# EAGLE library part ARDUINO_PRO_MINI_1 (library arduino)
Arduino Pro Mini Microcontroller ATmega328 Operating Voltage 3.3V or 5V (depending on model) Input Voltage 3.35 -12 V (3.3V model) or 5 - 12 V (5V model) Digital I/O Pins 14 (of which 6 provide PWM output) Analog Input Pins 6 DC Current per I/O Pin 40 mA Flash Memory 32 kB (of which 0.5 kB used by bootloader) SRAM 2 kB EEPROM 1 kB Clock Speed 8 MHz (3.3V model) or 16 MHz (5V model)
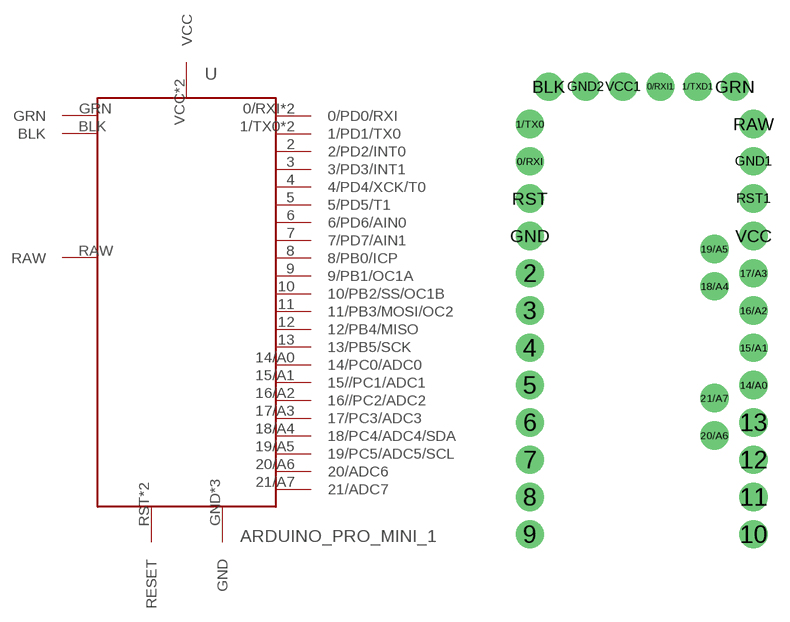
[diagram p0: symbol with the pads of ARDUINO_PRO_MINI_1; footprint ARDUINO_PRO_MINI_1]

Designator prefix -

## ARDUINO_PRO_MINI_11  [ARDUINO_PRO_MINI_1]
0/RXI  0/PD0/RXI
0/RXI1  0/PD0/RXI
1/TX0  1/PD1/TX0
1/TXD1  1/PD1/TX0
2  2/PD2/INT0
3  3/PD3/INT1
4  4/PD4/XCK/T0
5  5/PD5/T1
6  6/PD6/AIN0
7  7/PD7/AIN1
8  8/PB0/ICP
9  9/PB1/OC1A
10  10/PB2/SS/OC1B
11  11/PB3/MOSI/OC2
12  12/PB4/MISO
13  13/PB5/SCK
14/A0  14/PC0/ADC0
15/A1  15//PC1/ADC1
16/A2  16//PC2/ADC2
17/A3  17/PC3/ADC3
18/A4  18/PC4/ADC4/SDA
19/A5  19/PC5/ADC5/SCL
20/A6  20/ADC6
21/A7  21/ADC7
BLK  BLK
GND  GND
GND1  GND
GND2  GND
GRN  GRN
RAW  RAW
RST  RESET
RST1  RESET
VCC  VCC  pwr
VCC1  VCC  pwr

## Footprint ARDUINO_PRO_MINI_1 (pad centres in mm)
Arduino Pro Mini Microcontroller ATmega328 Operating Voltage 3.3V or 5V (depending on model) Input Voltage 3.35 -12 V (3.3V model) or 5 - 12 V (5V model) Digital I/O Pins 14 (of which 6 provide PWM output) Analog Input Pins 6 DC Current per I/O Pin 40 mA Flash Memory 32 kB (of which 0.5 kB used by bootloader) SRAM 2 kB EEPROM 1 kB Clock Speed 8 MHz (3.3V model) or 16 MHz (5V model)
drill 0.254 pad 1.93: 0/RXI 1.27,26.67; 0/RXI1 10.16,31.75; 1/TX0 1.27,29.21; 1/TXD1 12.7,31.75; 2 1.27,19.05; 3 1.27,16.51; 4 1.27,13.97; 5 1.27,11.43; 6 1.27,8.89; 7 1.27,6.35; 8 1.27,3.81; 9 1.27,1.27; 10 16.51,1.27; 11 16.51,3.81; 12 16.51,6.35; 13 16.51,8.89; 14/A0 16.51,11.43; 15/A1 16.51,13.97; 16/A2 16.51,16.51; 17/A3 16.51,19.05; 18/A4 13.843,18.161; 19/A5 13.843,20.701; 20/A6 13.843,8.001; 21/A7 13.843,10.541; BLK 2.54,31.75; GND 1.27,21.59; GND1 16.51,26.67; GND2 5.08,31.75; GRN 15.24,31.75; RAW 16.51,29.21; RST 1.27,24.13; RST1 16.51,24.13; VCC 16.51,21.59; VCC1 7.62,31.75